# Altium schematic symbol library IPS160HTR.SchLib: 1 symbol
Pins are listed as number, name and electrical type; pins without a type are passive.

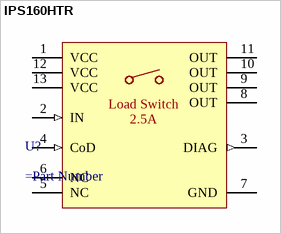
[diagram p0: symbol IPS160HTR]

## IPS160HTR
designator U?
=Description
pins: 1 VCC (power), 2 IN (in), 3 DIAG (out), 4 CoD (in), 5 NC, 6 NC, 7 GND (power), 8 OUT (power), 9 OUT (power), 10 OUT (power), 11 OUT (power), 12 VCC (power), 13 VCC (power)
text: Load Switch / 2.5A